# EAGLE library part MC33883 (library motorola-sensor-driver)
Full Bridge Pre-Driver 55V Source: www.motorola.com/... MC33883.pdf
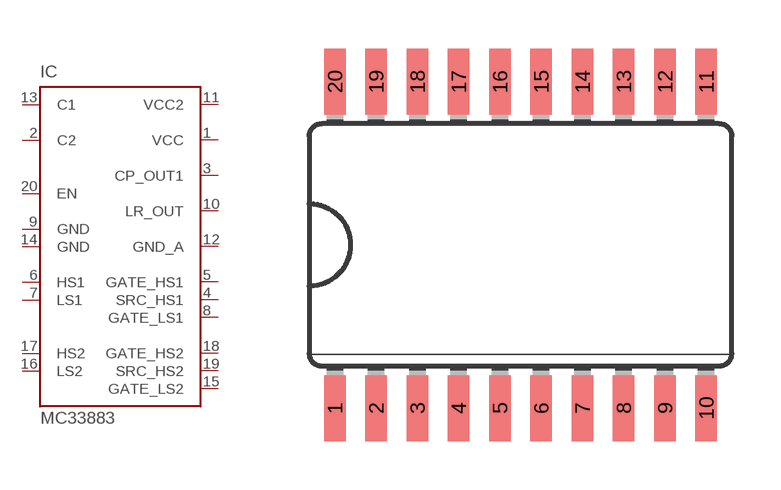
[diagram p3: symbol with the pads of SO20L; footprint SO20L]

Designator prefix IC

## MC33883DW (OC_FARNELL: unknown; OC_NEWARK: unknown)  [SO20L]
1  VCC  pwr
2  C2  pas
3  CP_OUT1  pas
4  SRC_HS1  out
5  GATE_HS1  out
6  HS1  in
7  LS1  in
8  GATE_LS1  out
9  GND  pwr
10  LR_OUT  pas
11  VCC2  pwr
12  GND_A  pwr
13  C1  pas
14  GND  pwr
15  GATE_LS2  out
16  LS2  in
17  HS2  in
18  GATE_HS2  out
19  SRC_HS2  out
20  EN  in

## Footprint SO20L (pad centres in mm)
Small Outline Package
smd 0.66 x 2.032: 1 -5.715,-5.029; 2 -4.445,-5.029; 3 -3.175,-5.029; 4 -1.905,-5.029; 5 -0.635,-5.029; 6 0.635,-5.029; 7 1.905,-5.029; 8 3.175,-5.029; 9 4.445,-5.029; 10 5.715,-5.029; 11 5.715,5.029; 12 4.445,5.029; 13 3.175,5.029; 14 1.905,5.029; 15 0.635,5.029; 16 -0.635,5.029; 17 -1.905,5.029; 18 -3.175,5.029; 19 -4.445,5.029; 20 -5.715,5.029